# EAGLE library part STM32F205R (library we-chip)
ST STM32F205 ARM Microcontroller B = 128 KB Flash / 64 KB RAM C = 256 KB Flash / 96 KB RAM E = 512 KB Flash / 128 KB RAM F = 768 KB Flash / 128 KB RAM G = 1024 KB Flash / 128 KB RAM
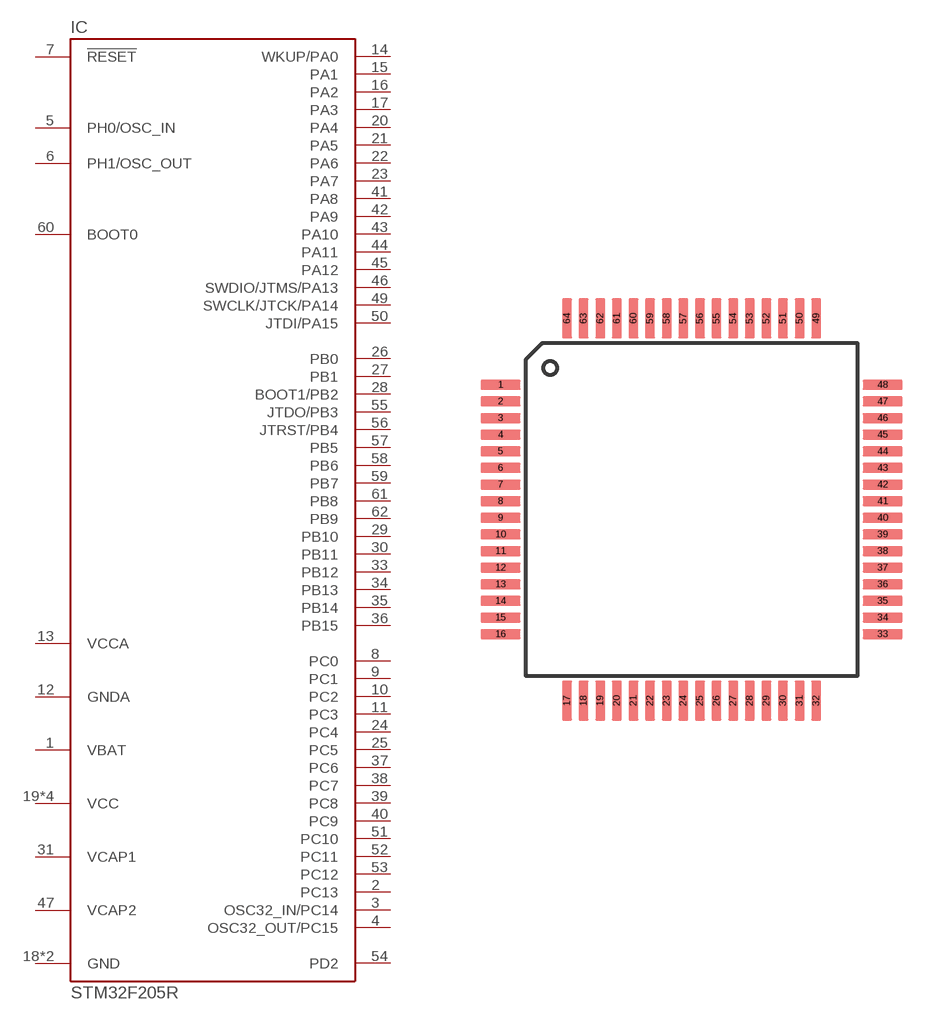
[diagram p62: symbol with the pads of LQFP64; footprint LQFP64]

Designator prefix IC

## STM32F205RBT  [LQFP64]
1  VBAT  pwr
2  PC13
3  OSC32_IN/PC14
4  OSC32_OUT/PC15
5  PH0/OSC_IN
6  PH1/OSC_OUT
7  !RESET  in
8  PC0
9  PC1
10  PC2
11  PC3
12  GNDA  pwr
13  VCCA  pwr
14  WKUP/PA0
15  PA1
16  PA2
17  PA3
18  GND  pwr
19  VCC  pwr
20  PA4
21  PA5
22  PA6
23  PA7
24  PC4
25  PC5
26  PB0
27  PB1
28  BOOT1/PB2
29  PB10
30  PB11
31  VCAP1  pwr
32  VCC  pwr
33  PB12
34  PB13
35  PB14
36  PB15
37  PC6
38  PC7
39  PC8
40  PC9
41  PA8
42  PA9
43  PA10
44  PA11
45  PA12
46  SWDIO/JTMS/PA13
47  VCAP2  pwr
48  VCC  pwr
49  SWCLK/JTCK/PA14
50  JTDI/PA15
51  PC10
52  PC11
53  PC12
54  PD2
55  JTDO/PB3
56  JTRST/PB4
57  PB5
58  PB6
59  PB7
60  BOOT0
61  PB8
62  PB9
63  GND  pwr
64  VCC  pwr

## STM32F205RCT  [LQFP64]
Pads as for LQFP64

## STM32F205RET  [LQFP64]
Pads as for LQFP64

## Footprint LQFP64 (pad centres in mm)
smd 1.2 x 0.3: 1 -5.75,3.75; 2 -5.75,3.25; 3 -5.75,2.75; 4 -5.75,2.25; 5 -5.75,1.75; 6 -5.75,1.25; 7 -5.75,0.75; 8 -5.75,0.25; 9 -5.75,-0.25; 10 -5.75,-0.75; 11 -5.75,-1.25; 12 -5.75,-1.75; 13 -5.75,-2.25; 14 -5.75,-2.75; 15 -5.75,-3.25; 16 -5.75,-3.75; 33 5.75,-3.75; 34 5.75,-3.25; 35 5.75,-2.75; 36 5.75,-2.25; 37 5.75,-1.75; 38 5.75,-1.25; 39 5.75,-0.75; 40 5.75,-0.25; 41 5.75,0.25; 42 5.75,0.75; 43 5.75,1.25; 44 5.75,1.75; 45 5.75,2.25; 46 5.75,2.75; 47 5.75,3.25; 48 5.75,3.75
smd 0.3 x 1.2: 17 -3.75,-5.75; 18 -3.25,-5.75; 19 -2.75,-5.75; 20 -2.25,-5.75; 21 -1.75,-5.75; 22 -1.25,-5.75; 23 -0.75,-5.75; 24 -0.25,-5.75; 25 0.25,-5.75; 26 0.75,-5.75; 27 1.25,-5.75; 28 1.75,-5.75; 29 2.25,-5.75; 30 2.75,-5.75; 31 3.25,-5.75; 32 3.75,-5.75; 49 3.75,5.75; 50 3.25,5.75; 51 2.75,5.75; 52 2.25,5.75; 53 1.75,5.75; 54 1.25,5.75; 55 0.75,5.75; 56 0.25,5.75; 57 -0.25,5.75; 58 -0.75,5.75; 59 -1.25,5.75; 60 -1.75,5.75; 61 -2.25,5.75; 62 -2.75,5.75; 63 -3.25,5.75; 64 -3.75,5.75